# EAGLE library part POWER_AMP_LME49811TB (library PIEZO_LBR)
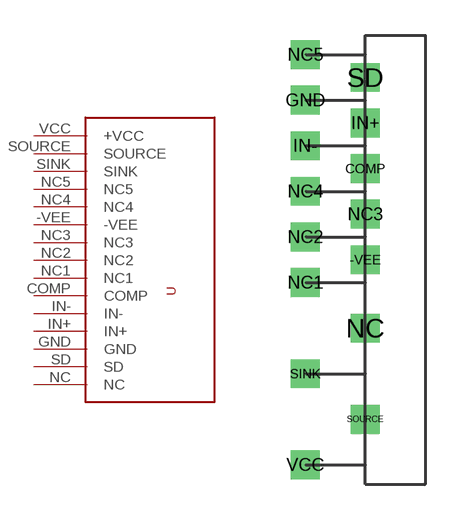
[diagram p0: symbol with the pads of POWER_AMP_LME49811TB; footprint POWER_AMP_LME49811TB]

Designator prefix -

## POWER_AMP_LME49811TB  [POWER_AMP_LME49811TB]
-VEE  -VEE
COMP  COMP
GND  GND
IN+  IN+
IN-  IN-
NC  NC
NC1  NC1
NC2  NC2
NC3  NC3
NC4  NC4
NC5  NC5
SD  SD
SINK  SINK
SOURCE  SOURCE
VCC  +VCC

## Footprint POWER_AMP_LME49811TB (pad centres in mm)
drill 0.71 square: -VEE -1.351,-0.455; COMP -1.351,3.405; GND -3.891,6.3; IN+ -1.351,5.335; IN- -3.891,4.37; NC -1.351,-3.35; NC1 -3.891,-1.42; NC2 -3.891,0.51; NC3 -1.351,1.475; NC4 -3.891,2.44; NC5 -3.891,8.23; SD -1.351,7.265; SINK -3.891,-5.28; SOURCE -1.351,-7.21; VCC -3.891,-9.14